# EAGLE library part KSZ8188 (library Micrel-KSZ8081RNB)
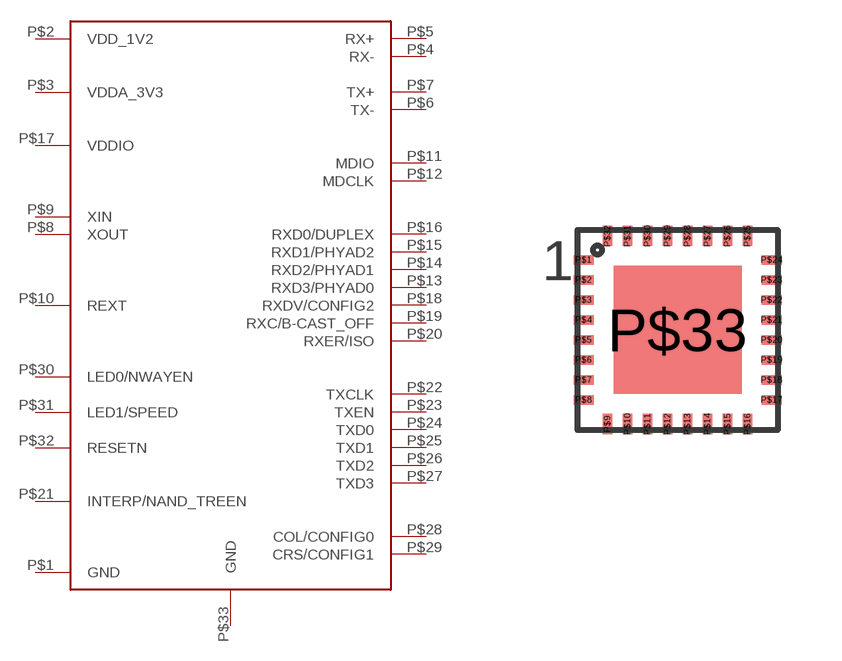
[diagram p0: symbol with the pads of QFN32; footprint QFN32]

Designator prefix -

## KSZ8188  [QFN32]
P$1  GND
P$2  VDD_1V2
P$3  VDDA_3V3
P$4  RX-
P$5  RX+
P$6  TX-
P$7  TX+
P$8  XOUT
P$9  XIN
P$10  REXT
P$11  MDIO
P$12  MDCLK
P$13  RXD3/PHYAD0
P$14  RXD2/PHYAD1
P$15  RXD1/PHYAD2
P$16  RXD0/DUPLEX
P$17  VDDIO
P$18  RXDV/CONFIG2
P$19  RXC/B-CAST_OFF
P$20  RXER/ISO
P$21  INTERP/NAND_TREEN
P$22  TXCLK
P$23  TXEN
P$24  TXD0
P$25  TXD1
P$26  TXD2
P$27  TXD3
P$28  COL/CONFIG0
P$29  CRS/CONFIG1
P$30  LED0/NWAYEN
P$31  LED1/SPEED
P$32  RESETN
P$33  GND

## Footprint QFN32 (pad centres in mm)
smd 0.5 x 0.23: P$1 -2.35,1.75; P$2 -2.35,1.25; P$3 -2.35,0.75; P$4 -2.35,0.25; P$5 -2.35,-0.25; P$6 -2.35,-0.75; P$7 -2.35,-1.25; P$8 -2.35,-1.75; P$17 2.35,-1.75; P$18 2.35,-1.25; P$19 2.35,-0.75; P$20 2.35,-0.25; P$21 2.35,0.25; P$22 2.35,0.75; P$23 2.35,1.25; P$24 2.35,1.75
smd 0.23 x 0.5: P$9 -1.75,-2.35; P$10 -1.25,-2.35; P$11 -0.75,-2.35; P$12 -0.25,-2.35; P$13 0.25,-2.35; P$14 0.75,-2.35; P$15 1.25,-2.35; P$16 1.75,-2.35; P$25 1.75,2.35; P$26 1.25,2.35; P$27 0.75,2.35; P$28 0.25,2.35; P$29 -0.25,2.35; P$30 -0.75,2.35; P$31 -1.25,2.35; P$32 -1.75,2.35
smd 3.2 x 3.2: P$33 0,0